# Altium footprint library 532610271.PcbLib: 3 footprints
Each footprint in its own frame and in the unit in brackets; x right, y up, seen from the top. Pads: shape width x height; smd on the part's side, far side on the other; paste and mask are expansions set on the pad; w line width, h text height; cw(c..) or ccw(c..) is an arc to the next point about the centre after c.
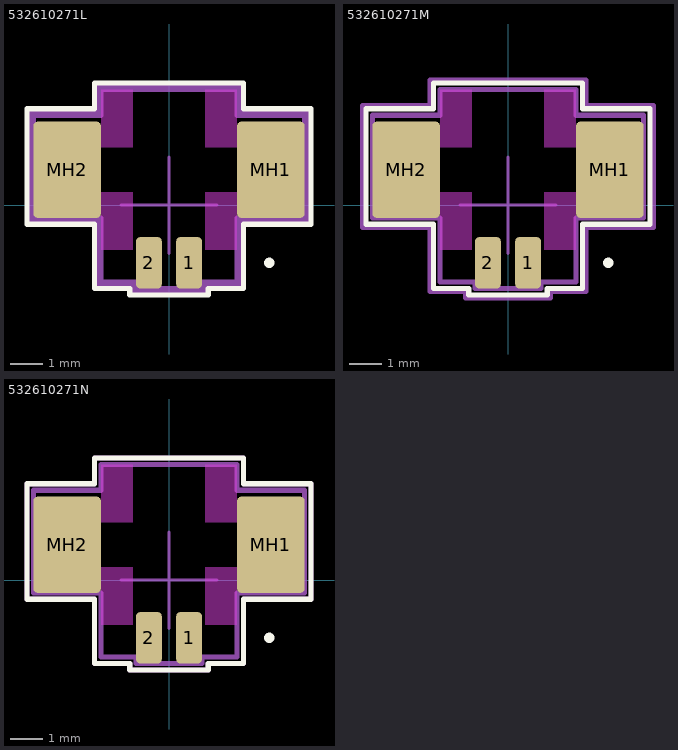
[diagram p0: the footprints below, top view; thin cyan lines are the x and y axes]

## 532610271L [mm] "Molex PicoBlade 2-Pin Right-Angle Connector with Tin Coating"
height 3.4
pads (4):
  rrect31% 0.8x1.6 smd: 1(0.625,-1.8) 2(-0.625,-1.8)
  rrect12% 2.1x3 smd: MH1(3.175,1.1) MH2(-3.175,1.1)
Top Layer keep-out:
  rectangle: -2.125,3.6 -1.125,1.8
  rectangle: 2.125,3.6 1.125,1.8
  rectangle: -2.125,-1.4 -1.125,0.4
  rectangle: 2.125,-1.4 1.125,0.4
Top Overlay:
  circle w0.16: c3.125,-1.8 r0.08
  lines w0.16: -4.425,-0.6 -2.325,-0.6 -2.325,-2.6 -1.225,-2.6 -1.225,-2.8 1.225,-2.8 1.225,-2.6 2.325,-2.6 2.325,-0.6 4.425,-0.6 4.425,3 2.325,3 2.325,3.8 -2.325,3.8 -2.325,3 -4.425,3 -4.425,-0.6
Top Component Center:
  lines w0.1: -1.5,0 1.5,0 ; 0,-1.5 0,1.5
Top Courtyard:
  lines w0.16: -4.325,-0.5 -2.225,-0.5 -2.225,-2.5 -1.125,-2.5 -1.125,-2.7 1.125,-2.7 1.125,-2.5 2.225,-2.5 2.225,-0.5 4.325,-0.5 4.325,2.9 2.225,2.9 2.225,3.7 -2.225,3.7 -2.225,2.9 -4.325,2.9 -4.325,-0.5
Top Assembly:
  lines w0.16: -4.225,-0.4 -2.125,-0.4 -2.125,-2.4 -1.025,-2.4 -1.025,-2.6 1.025,-2.6 1.025,-2.4 2.125,-2.4 2.125,-0.4 4.225,-0.4 4.225,2.8 2.125,2.8 2.125,3.6 -2.125,3.6 -2.125,2.8 -4.225,2.8 -4.225,-0.4
3D body "532610271L.STEP": height 3.4, standoff 0, extent -3.825,-2 3.825,3.2

## 532610271M [mm] "Molex PicoBlade 2-Pin Right-Angle Connector with Tin Coating"
height 3.4
pads (4):
  rrect31% 0.8x1.6 smd: 1(0.625,-1.8) 2(-0.625,-1.8)
  rrect12% 2.1x3 smd: MH1(3.175,1.1) MH2(-3.175,1.1)
Top Layer keep-out:
  rectangle: -2.125,3.6 -1.125,1.8
  rectangle: 2.125,3.6 1.125,1.8
  rectangle: -2.125,-1.4 -1.125,0.4
  rectangle: 2.125,-1.4 1.125,0.4
Top Overlay:
  circle w0.16: c3.125,-1.8 r0.08
  lines w0.16: -4.425,-0.6 -2.325,-0.6 -2.325,-2.6 -1.225,-2.6 -1.225,-2.8 1.225,-2.8 1.225,-2.6 2.325,-2.6 2.325,-0.6 4.425,-0.6 4.425,3 2.325,3 2.325,3.8 -2.325,3.8 -2.325,3 -4.425,3 -4.425,-0.6
Top Component Center:
  lines w0.1: -1.5,0 1.5,0 ; 0,-1.5 0,1.5
Top Courtyard:
  lines w0.16: -4.525,-0.7 -2.425,-0.7 -2.425,-2.7 -1.325,-2.7 -1.325,-2.9 1.325,-2.9 1.325,-2.7 2.425,-2.7 2.425,-0.7 4.525,-0.7 4.525,3.1 2.425,3.1 2.425,3.9 -2.425,3.9 -2.425,3.1 -4.525,3.1 -4.525,-0.7
Top Assembly:
  lines w0.16: -4.225,-0.4 -2.125,-0.4 -2.125,-2.4 -1.025,-2.4 -1.025,-2.6 1.025,-2.6 1.025,-2.4 2.125,-2.4 2.125,-0.4 4.225,-0.4 4.225,2.8 2.125,2.8 2.125,3.6 -2.125,3.6 -2.125,2.8 -4.225,2.8 -4.225,-0.4
3D body "532610271M.STEP": height 3.4, standoff 0, extent -3.825,-2 3.825,3.2

## 532610271N [mm] "Molex PicoBlade 2-Pin Right-Angle Connector with Tin Coating"
height 3.4
pads (4):
  rrect31% 0.8x1.6 smd: 1(0.625,-1.8) 2(-0.625,-1.8)
  rrect12% 2.1x3 smd: MH1(3.175,1.1) MH2(-3.175,1.1)
Top Layer keep-out:
  rectangle: -2.125,3.6 -1.125,1.8
  rectangle: 2.125,3.6 1.125,1.8
  rectangle: -2.125,-1.4 -1.125,0.4
  rectangle: 2.125,-1.4 1.125,0.4
Top Overlay:
  circle w0.16: c3.125,-1.8 r0.08
  lines w0.16: -4.425,-0.6 -2.325,-0.6 -2.325,-2.6 -1.225,-2.6 -1.225,-2.8 1.225,-2.8 1.225,-2.6 2.325,-2.6 2.325,-0.6 4.425,-0.6 4.425,3 2.325,3 2.325,3.8 -2.325,3.8 -2.325,3 -4.425,3 -4.425,-0.6
Top Component Center:
  lines w0.1: -1.5,0 1.5,0 ; 0,-1.5 0,1.5
Top Courtyard:
  lines w0.16: -4.425,-0.6 -2.325,-0.6 -2.325,-2.6 -1.225,-2.6 -1.225,-2.8 1.225,-2.8 1.225,-2.6 2.325,-2.6 2.325,-0.6 4.425,-0.6 4.425,3 2.325,3 2.325,3.8 -2.325,3.8 -2.325,3 -4.425,3 -4.425,-0.6
Top Assembly:
  lines w0.16: -4.225,-0.4 -2.125,-0.4 -2.125,-2.4 -1.025,-2.4 -1.025,-2.6 1.025,-2.6 1.025,-2.4 2.125,-2.4 2.125,-0.4 4.225,-0.4 4.225,2.8 2.125,2.8 2.125,3.6 -2.125,3.6 -2.125,2.8 -4.225,2.8 -4.225,-0.4
3D body "532610271N.STEP": height 3.4, standoff 0, extent -3.825,-2 3.825,3.2